# Altium schematic symbol library PolarizedCap.Schlib: 1 symbol
Pins are listed as number, name and electrical type; pins without a type are passive.

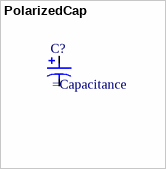
[diagram p0: symbol PolarizedCap]

## PolarizedCap
designator C?
Polarized Capacitor
pins: 1 P, 2 N